# EAGLE library part 490107670812 (library Eagle_WR-WST (rev19b))
WR-WST REDFIT IDC SKEDD For permanent application up to 10g vibration stable PACKAGING PROPERTIES Packaging Tube ELECTRICAL PROPERTIES IR1 1 A RISO 1000 MΩ Withstanding Voltage 500 V (AC) Contact Resistance 10 mΩ PROPERTIES Insulator Material LCP Insulator Flammability Rating UL94 V-0 Insulator Color Black Contact Material CuNiSi Contact Plating Au (SKEDD), Sn (IDC) Pitch 2.54 mm Cable AWG 28/1.27 mm ribbon cable Operating Temperature -25 up to +105 °C Compliance Lead free / RoHS <https://katalog.we-online.com/media/images/v2/o104848v209%20Single_WR-WST_REDFIT.jpg> Details see: https://katalog.we-online.com/en/em/REDFIT_IDC_SKEDD Updated By Ella Wu 2019-05-21 2019 (C) Wurth Elektronik
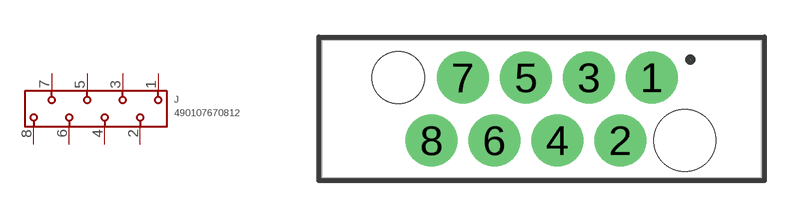
[diagram p15: symbol with the pads of 490107670812; footprint 490107670812]

Designator prefix J

## 490107670812 (CONTACT-RESISTANCE: 10mOhm; DATASHEET-URL: https://katalog.we-online.com/em/datasheet/490107670812.pdf; GENDER: Transition; IR: 1A; L: 17.75mm; PACKAGING: Tube; PART-NUMBER: 490107670812; PINS: 8; PITCH: 2.54mm; TOL-R: max.; USE-WITH: WR-CAB 1.27 mm Ribbon Flat Cable/WR-CAB 1.27 mm Ribbon Flat Cable 1 m pieces; WE-NUMBER: 490107670812; WORKING-VOLTAGE: 100V(AC))  [490107670812]
1  1  pas
2  2  pas
3  3  pas
4  4  pas
5  5  pas
6  6  pas
7  7  pas
8  8  pas

## Footprint 490107670812 (pad centres in mm)
WR-WST REDFIT IDC SKEDD For permanent application up to 10g vibration stable
drill 1.4 pad 1.75: 1 4.445,1.27; 2 3.175,-1.27; 3 1.905,1.27; 4 0.635,-1.27; 5 -0.635,1.27; 6 -1.905,-1.27; 7 -3.175,1.27; 8 -4.445,-1.27
hole 2.1 at -5.775,1.27
hole 2.5 at 5.775,-1.27